# Altium schematic symbol library Schlib1.SchLib: 9 symbols
Pins are listed as number, name and electrical type; pins without a type are passive.

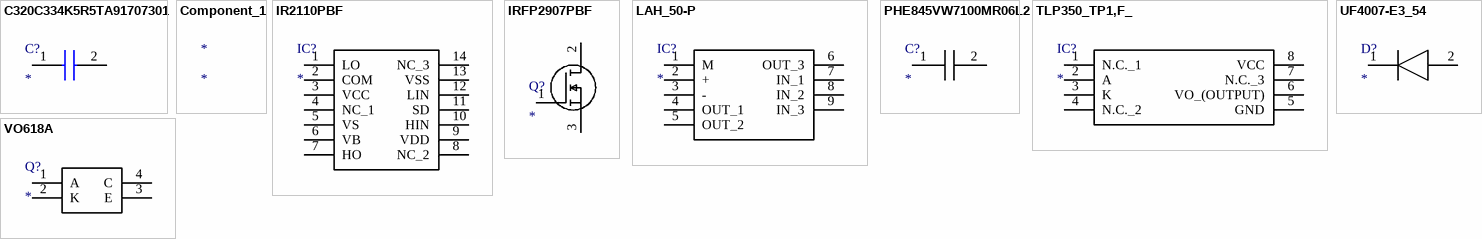
[diagram p0: symbols C320C334K5R5TA91707301 to VO618A]

## C320C334K5R5TA91707301
designator C?
Capacitor; Manufacturer_Name: KEMET; Manufacturer_Part_Number: C320C334K5R5TA91707301; Datasheet Link: https://content.kemet.com/datasheets/KEM_C1053_GOLDMAX_X7R_AUTO.pdf; Mouser Part Number: 80-C320C334K5R9170-R; Mouser Price/Stock: https://www.mouser.co.uk/ProductDetail/KEMET/C320C334K5R5TA91707301?qs=CMe0l2alOJWOav3f3bfBiQ%3D%3D
footprint C320C334K5R5TA91707301
pins: 1, 2

## Component_1
designator *

## IR2110PBF
designator IC?
Integrated Circuit; Manufacturer_Name: Infineon; Manufacturer_Part_Number: IR2110PBF; Datasheet Link: https://www.infineon.com/cms/en/product/power/gate-driver-ics/?; Height: 5.33mm; Mouser Part Number: 942-IR2110PBF; Mouser Price/Stock: https://www.mouser.co.uk/ProductDetail/Infineon-Technologies/IR2110PBF?qs=2r01AXMCG3MulUIzmlbKYw%3D%3D; Arrow Part Number: IR2110PBF; Arrow Price/Stock: https://www.arrow.com/en/products/ir2110pbf/infineon-technologies-ag?region=nac
footprint DIP761W56P254L1930H533Q14N
pins: 1 LO, 2 COM, 3 VCC, 4 NC_1, 5 VS, 6 VB, 7 HO, 8 NC_2, 9 VDD, 10 HIN, 11 SD, 12 LIN, 13 VSS, 14 NC_3

## IRFP2907PBF
designator Q?
MOSFET (N-Channel); Manufacturer_Name: Infineon; Manufacturer_Part_Number: IRFP2907PBF; Datasheet Link: https://www.infineon.com/dgdl/irfp2907pbf.pdf?fileId=5546d462533600a401535628b2d51fe8; Height: 5.31mm; Mouser Part Number: 942-IRFP2907PBF; Mouser Price/Stock: https://www.mouser.co.uk/ProductDetail/Infineon-IR/IRFP2907PBF?qs=XgnB68EmdM1ZjadeHZwM5g%3D%3D; Arrow Part Number: IRFP2907PBF; Arrow Price/Stock: https://www.arrow.com/en/products/irfp2907pbf/infineon-technologies-ag
footprint TO546P531X1558X2499-3P
pins: 1 G, 2 D, 3 S

## LAH_50-P
designator IC?
Integrated Circuit; Manufacturer_Name: LEM; Manufacturer_Part_Number: LAH 50-P; Datasheet Link: https://www.lem.com/sites/default/files/products_datasheets/lah_50-p.pdf; Height: 21.15mm
footprint LAH50P
pins: 1 M, 2 +, 3 -, 4 OUT_1, 5 OUT_2, 6 OUT_3, 7 IN_1, 8 IN_2, 9 IN_3

## PHE845VW7100MR06L2
designator C?
Capacitor; Manufacturer_Name: KEMET; Manufacturer_Part_Number: PHE845VW7100MR06L2; Datasheet Link: https://www.kemet.com/specsheet/F845RP105M760C; Height: 38mm; Mouser Part Number: 80-PHE845VW7100MR6L2; Mouser Price/Stock: https://www.mouser.com/Search/Refine.aspx?Keyword=80-PHE845VW7100MR6L2
footprint PHE845VW7100MR06L2
pins: 1, 2

## TLP350_TP1,F_
designator IC?
Integrated Circuit; Manufacturer_Name: Toshiba; Manufacturer_Part_Number: TLP350(TP1,F); Description: Optocoupler Drive Push-Pull 1-CH 30V 1000V 8-Pin PDIP SMD T/R; Datasheet Link: https://toshiba.semicon-storage.com/info/docget.jsp?did=6217&prodName=TLP350; Height: 4.85mm; Mouser Part Number: 757-TLP350(TP1,F); Mouser Price/Stock: https://www.mouser.co.uk/ProductDetail/Toshiba/TLP350TP1F?qs=f0GatGUIxV3mNWWzK5NBiQ%3D%3D; Arrow Part Number: TLP350(TP1,F); Arrow Price/Stock: https://www.arrow.com/en/products/tlp350-tp1f/toshiba?region=asia
footprint DIP762W60P254L966H485Q8N
pins: 1 N.C._1, 2 A, 3 K, 4 N.C._2, 5 GND, 6 VO_(OUTPUT), 7 N.C._3, 8 VCC

## UF4007-E3_54
designator D?
Diode; Manufacturer_Name: Vishay; Manufacturer_Part_Number: UF4007-E3/54; Datasheet Link: https://componentsearchengine.com/Datasheets/1/UF4007-E3_54.pdf; Mouser Part Number: 625-UF4007-E3; Mouser Price/Stock: https://www.mouser.co.uk/ProductDetail/Vishay-General-Semiconductor/UF4007-E3-54?qs=D6r9GjgEnNO74IquQywOzA%3D%3D; Arrow Part Number: UF4007-E3/54; Arrow Price/Stock: https://www.arrow.com/en/products/uf4007-e354/vishay?region=europe
footprint DIOAD1405W86L465D235
pins: 1 K, 2 A

## VO618A
designator Q?
Transistor; Manufacturer_Name: Vishay; Manufacturer_Part_Number: VO618A; Description: Transistor Output Optocouplers Phototransistor Out CTR 50-600%; Datasheet Link: https://www.vishay.com/docs/83432/vo618a.pdf; Height: 4.3mm; Mouser Part Number: 78-VO618A; Mouser Price/Stock: https://www.mouser.co.uk/ProductDetail/Vishay-Semiconductors/VO618A?qs=s4XK1XdnRik%2FNX5a1Rh4WQ%3D%3D; Arrow Part Number: VO618A; Arrow Price/Stock: https://www.arrow.com/en/products/vo618a/vishay?region=nac
footprint DIP762W60P254L458H430Q4N
pins: 1 A, 2 K, 3 E, 4 C